# Altium integrated library Cypress Microcontroller 8-Bit.IntLib: 9 symbols
Pins are listed as number, name and electrical type; pins without a type are passive.

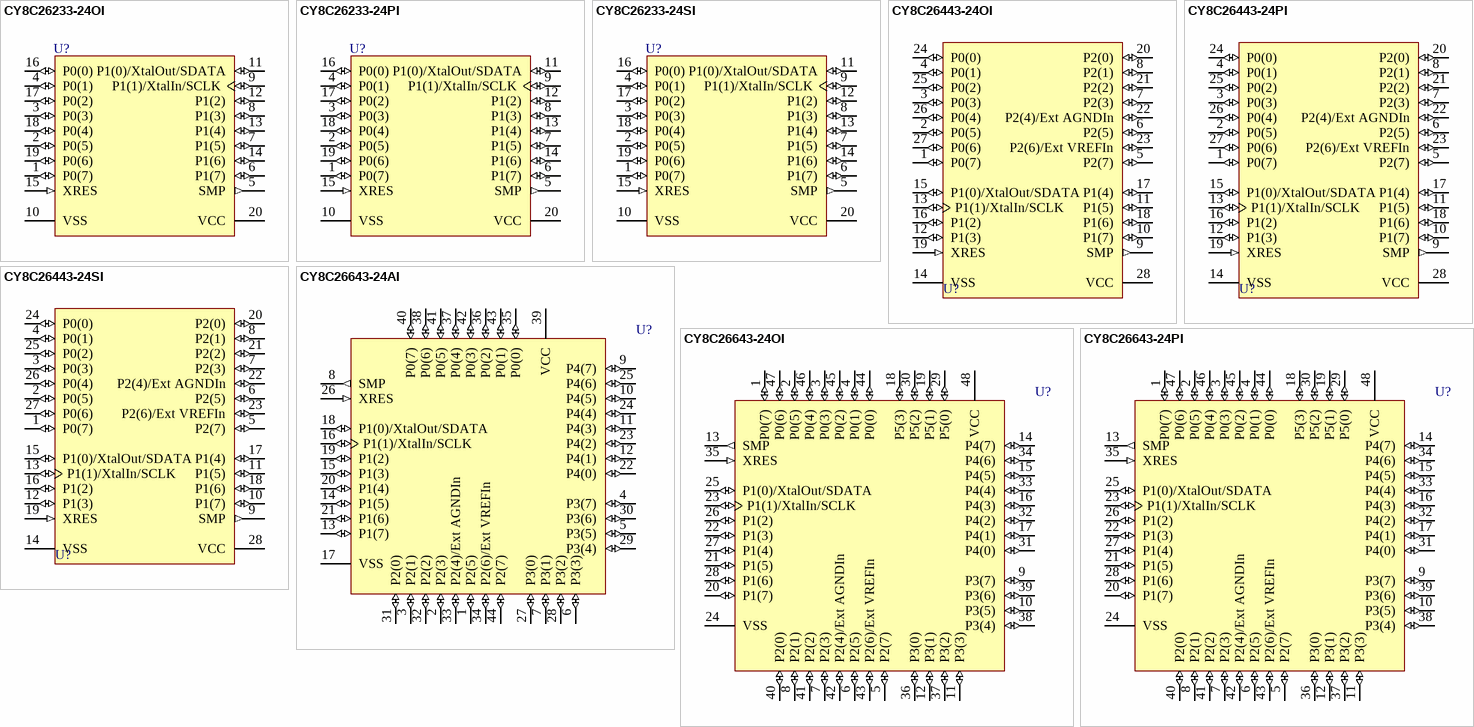
[diagram p0: symbols CY8C26233-24OI to CY8C26643-24PI]

## CY8C26233-24OI
designator U?
Programmable System-On-Chip; Published: 11-Dec-2002; LatestRevisionDate: 04-Mar-2005; LatestRevisionNote: Stylized 3D Model Added.; DatasheetVersion: 2000-2001; PackageVersion: Jun-1997; PackageReference: O20; Publisher: Altium Limited; PackageDescription: SSOP; 20 Leads; Body Width 5.3 mm; Pitch 0.65 mm; ComponentLink1Description: Manufacturer Link; ComponentLink1URL: http://www.cypressmicro.com
footprint O20 (SSOP; 20 Leads; Body Width 5.3 mm; Pitch 0.65 mm)
3D model O20 (SSOP; 20 Leads; Body Width 5.3 mm; Pitch 0.65 mm)
pins: 1 P0(7) (io), 2 P0(5) (io), 3 P0(3) (io), 4 P0(1) (io), 5 SMP (out), 6 P1(7) (io), 7 P1(5) (io), 8 P1(3) (io), 9 P1(1)/XtalIn/SCLK (io), 10 VSS (power), 11 P1(0)/XtalOut/SDATA (io), 12 P1(2) (io), 13 P1(4) (io), 14 P1(6) (io), 15 XRES (in), 16 P0(0) (io), 17 P0(2) (io), 18 P0(4) (io), 19 P0(6) (io), 20 VCC (power)

## CY8C26233-24PI
designator U?
Programmable System-On-Chip; Published: 11-Dec-2002; LatestRevisionDate: 04-Mar-2005; LatestRevisionNote: Stylized 3D Model Added.; DatasheetVersion: 2000-2001; PackageVersion: Jul-2001; PackageReference: P5; Publisher: Altium Limited; PackageDescription: DIP, Molded; 20 Leads; Row Spacing 7.62 mm; Pitch 2.54 mm; Code_JEDEC: MS-001-AD; ComponentLink1Description: Manufacturer Link; ComponentLink1URL: http://www.cypressmicro.com
footprint P5 (DIP, Molded; 20 Leads; Row Spacing 7.62 mm; Pitch 2.54 mm)
3D model P5 (DIP, Molded; 20 Leads; Row Spacing 7.62 mm; Pitch 2.54 mm)
pins: 1 P0(7) (io), 2 P0(5) (io), 3 P0(3) (io), 4 P0(1) (io), 5 SMP (out), 6 P1(7) (io), 7 P1(5) (io), 8 P1(3) (io), 9 P1(1)/XtalIn/SCLK (io), 10 VSS (power), 11 P1(0)/XtalOut/SDATA (io), 12 P1(2) (io), 13 P1(4) (io), 14 P1(6) (io), 15 XRES (in), 16 P0(0) (io), 17 P0(2) (io), 18 P0(4) (io), 19 P0(6) (io), 20 VCC (power)

## CY8C26233-24SI
designator U?
Programmable System-On-Chip; Published: 11-Dec-2002; LatestRevisionDate: 13-Apr-2006; LatestRevisionNote: IPC-7351 Footprint Added.; DatasheetVersion: 2000-2001; PackageVersion: Apr-2000; PackageReference: S5; Publisher: Altium Limited; PackageDescription: 20-Pin Molded Small Outline Integrated Circuit 1.27 mm Pitch; Code_JEDEC: MS-013-AC; Code_IPC: SOIC127P1030-20; ComponentLink1Description: Manufacturer Link; ComponentLink1URL: http://www.cypressmicro.com
footprint S5_N (SOIC, 20-Leads, Body 12.8x7.5mm, Pitch 1.27mm, IPC Medium Density)
footprint S5_L (SOIC, 20-Leads, Body 12.8x7.5mm, Pitch 1.27mm, IPC High Density)
footprint S5_M (SOIC, 20-Leads, Body 12.8x7.5mm, Pitch 1.27mm, IPC Low Density)
3D model S5 (20-Pin Molded Small Outline Integrated Circuit 1.27 mm Pitch)
pins: 1 P0(7) (io), 2 P0(5) (io), 3 P0(3) (io), 4 P0(1) (io), 5 SMP (out), 6 P1(7) (io), 7 P1(5) (io), 8 P1(3) (io), 9 P1(1)/XtalIn/SCLK (io), 10 VSS (power), 11 P1(0)/XtalOut/SDATA (io), 12 P1(2) (io), 13 P1(4) (io), 14 P1(6) (io), 15 XRES (in), 16 P0(0) (io), 17 P0(2) (io), 18 P0(4) (io), 19 P0(6) (io), 20 VCC (power)

## CY8C26443-24OI
designator U?
Programmable System-On-Chip; Published: 11-Dec-2002; LatestRevisionDate: 04-Mar-2005; LatestRevisionNote: Stylized 3D Model Added.; DatasheetVersion: 2000-2001; PackageVersion: Jun-1997; PackageReference: O28; Publisher: Altium Limited; PackageDescription: SSOP; 28 Leads; Body Width 5.3 mm; Pitch 0.65 mm; ComponentLink1Description: Manufacturer Link; ComponentLink1URL: http://www.cypressmicro.com
footprint O28 (SSOP; 28 Leads; Body Width 5.3 mm; Pitch 0.65 mm)
3D model O28 (SSOP; 28 Leads; Body Width 5.3 mm; Pitch 0.65 mm)
pins: 1 P0(7) (io), 2 P0(5) (io), 3 P0(3) (io), 4 P0(1) (io), 5 P2(7) (io), 6 P2(5) (io), 7 P2(3) (io), 8 P2(1) (io), 9 SMP (out), 10 P1(7) (io), 11 P1(5) (io), 12 P1(3) (io), 13 P1(1)/XtalIn/SCLK (io), 14 VSS (power), 15 P1(0)/XtalOut/SDATA (io), 16 P1(2) (io), 17 P1(4) (io), 18 P1(6) (io), 19 XRES (in), 20 P2(0) (io), 21 P2(2) (io), 22 P2(4)/Ext AGNDIn (io), 23 P2(6)/Ext VREFIn (io), 24 P0(0) (io), 25 P0(2) (io), 26 P0(4) (io), 27 P0(6) (io), 28 VCC (power)

## CY8C26443-24PI
designator U?
Programmable System-On-Chip; Published: 11-Dec-2002; LatestRevisionDate: 04-Mar-2005; LatestRevisionNote: Stylized 3D Model Added.; DatasheetVersion: 2000-2001; PackageVersion: Jul-2000; PackageReference: P21; Publisher: Altium Limited; PackageDescription: DIP, Molded; 28 Leads; Row Spacing 7.62 mm; Pitch 2.54 mm; ComponentLink1Description: Manufacturer Link; ComponentLink1URL: http://www.cypressmicro.com
footprint P21 (DIP, Molded; 28 Leads; Row Spacing 7.62 mm; Pitch 2.54 mm)
3D model P21 (DIP, Molded; 28 Leads; Row Spacing 7.62 mm; Pitch 2.54 mm)
pins: 1 P0(7) (io), 2 P0(5) (io), 3 P0(3) (io), 4 P0(1) (io), 5 P2(7) (io), 6 P2(5) (io), 7 P2(3) (io), 8 P2(1) (io), 9 SMP (out), 10 P1(7) (io), 11 P1(5) (io), 12 P1(3) (io), 13 P1(1)/XtalIn/SCLK (io), 14 VSS (power), 15 P1(0)/XtalOut/SDATA (io), 16 P1(2) (io), 17 P1(4) (io), 18 P1(6) (io), 19 XRES (in), 20 P2(0) (io), 21 P2(2) (io), 22 P2(4)/Ext AGNDIn (io), 23 P2(6)/Ext VREFIn (io), 24 P0(0) (io), 25 P0(2) (io), 26 P0(4) (io), 27 P0(6) (io), 28 VCC (power)

## CY8C26443-24SI
designator U?
Programmable System-On-Chip; Published: 11-Dec-2002; LatestRevisionDate: 13-Apr-2006; LatestRevisionNote: IPC-7351 Footprint Added.; DatasheetVersion: 2000-2001; PackageVersion: Apr-1999; PackageReference: S21; Publisher: Altium Limited; PackageDescription: 28-Pin Molded Small Outline Integrated Circuit 1.27 mm Pitch; ComponentLink1Description: Manufacturer Link; ComponentLink1URL: http://www.cypressmicro.com
footprint S21_N (SOIC, 28-Leads, Body 17.9x7.5mm, Pitch 1.27mm, IPC Medium Density)
footprint S21_L (SOIC, 28-Leads, Body 17.9x7.5mm, Pitch 1.27mm, IPC High Density)
footprint S21_M (SOIC, 28-Leads, Body 17.9x7.5mm, Pitch 1.27mm, IPC Low Density)
3D model S21 (28-Pin Molded Small Outline Integrated Circuit 1.27 mm Pitch)
pins: 1 P0(7) (io), 2 P0(5) (io), 3 P0(3) (io), 4 P0(1) (io), 5 P2(7) (io), 6 P2(5) (io), 7 P2(3) (io), 8 P2(1) (io), 9 SMP (out), 10 P1(7) (io), 11 P1(5) (io), 12 P1(3) (io), 13 P1(1)/XtalIn/SCLK (io), 14 VSS (power), 15 P1(0)/XtalOut/SDATA (io), 16 P1(2) (io), 17 P1(4) (io), 18 P1(6) (io), 19 XRES (in), 20 P2(0) (io), 21 P2(2) (io), 22 P2(4)/Ext AGNDIn (io), 23 P2(6)/Ext VREFIn (io), 24 P0(0) (io), 25 P0(2) (io), 26 P0(4) (io), 27 P0(6) (io), 28 VCC (power)

## CY8C26643-24AI
designator U?
Programmable System-On-Chip; Published: 11-Dec-2002; LatestRevisionDate: 13-Apr-2006; LatestRevisionNote: IPC-7351 Footprint Added.; DatasheetVersion: 2000-2001; PackageVersion: Mar-2002; PackageReference: A44; Publisher: Altium Limited; PackageDescription: 44-Pin Thin Plastic Quad Flat Pack 0.8 mm Pitch; ComponentLink1Description: Manufacturer Link; ComponentLink1URL: http://www.cypressmicro.com
footprint A44_N (Thin QFP, 44-Leads, Body 10x10mm, Pitch 0.8mm, IPC Medium Density)
footprint A44_L (Thin QFP, 44-Leads, Body 10x10mm, Pitch 0.8mm, IPC High Density)
footprint A44_M (Thin QFP, 44-Leads, Body 10x10mm, Pitch 0.8mm, IPC Low Density)
3D model CY8C26643-A44 (44-Pin Thin Plastic Quad Flat Pack 0.8 mm Pitch)
pins: 1 P2(5) (io), 2 P2(3) (io), 3 P2(1) (io), 4 P3(7) (io), 5 P3(5) (io), 6 P3(3) (io), 7 P3(1) (io), 8 SMP (out), 9 P4(7) (io), 10 P4(5) (io), 11 P4(3) (io), 12 P4(1) (io), 13 P1(7) (io), 14 P1(5) (io), 15 P1(3) (io), 16 P1(1)/XtalIn/SCLK (io), 17 VSS (power), 18 P1(0)/XtalOut/SDATA (io), 19 P1(2) (io), 20 P1(4) (io), 21 P1(6) (io), 22 P4(0) (io), 23 P4(2) (io), 24 P4(4) (io), 25 P4(6) (io), 26 XRES (in), 27 P3(0) (io), 28 P3(2) (io), 29 P3(4) (io), 30 P3(6) (io), 31 P2(0) (io), 32 P2(2) (io), 33 P2(4)/Ext AGNDIn (io), 34 P2(6)/Ext VREFIn (io), 35 P0(0) (io), 36 P0(2) (io), 37 P0(4) (io), 38 P0(6) (io), 39 VCC (power), 40 P0(7) (io), 41 P0(5) (io), 42 P0(3) (io), 43 P0(1) (io), 44 P2(7) (io)

## CY8C26643-24OI
designator U?
Programmable System-On-Chip; Published: 11-Dec-2002; LatestRevisionDate: 04-Mar-2005; LatestRevisionNote: Stylized 3D Model Added.; DatasheetVersion: 2000-2001; PackageVersion: Feb-2001; PackageReference: O48; Publisher: Altium Limited; PackageDescription: SSOP; 48 Leads; Body Width 7.5 mm; Pitch 0.635 mm; Code_JEDEC: MO-118-AA; Code_IPC: SSO48; ComponentLink1Description: Manufacturer Link; ComponentLink1URL: http://www.cypressmicro.com
footprint O48 (SSOP; 48 Leads; Body Width 7.5 mm; Pitch 0.635 mm)
3D model O48 (SSOP; 48 Leads; Body Width 7.5 mm; Pitch 0.635 mm)
pins: 1 P0(7) (io), 2 P0(5) (io), 3 P0(3) (io), 4 P0(1) (io), 5 P2(7) (io), 6 P2(5) (io), 7 P2(3) (io), 8 P2(1) (io), 9 P3(7) (io), 10 P3(5) (io), 11 P3(3) (io), 12 P3(1) (io), 13 SMP (out), 14 P4(7) (io), 15 P4(5) (io), 16 P4(3) (io), 17 P4(1) (io), 18 P5(3) (io), 19 P5(1) (io), 20 P1(7) (io), 21 P1(5) (io), 22 P1(3) (io), 23 P1(1)/XtalIn/SCLK (io), 24 VSS (power), 25 P1(0)/XtalOut/SDATA (io), 26 P1(2) (io), 27 P1(4) (io), 28 P1(6) (io), 29 P5(0) (io), 30 P5(2) (io), 31 P4(0) (io), 32 P4(2) (io), 33 P4(4) (io), 34 P4(6) (io), 35 XRES (in), 36 P3(0) (io), 37 P3(2) (io), 38 P3(4) (io), 39 P3(6) (io), 40 P2(0) (io), 41 P2(2) (io), 42 P2(4)/Ext AGNDIn (io), 43 P2(6)/Ext VREFIn (io), 44 P0(0) (io), 45 P0(2) (io), 46 P0(4) (io), 47 P0(6) (io), 48 VCC (power)

## CY8C26643-24PI
designator U?
Programmable System-On-Chip; Published: 11-Dec-2002; LatestRevisionDate: 04-Mar-2005; LatestRevisionNote: Stylized 3D Model Added.; DatasheetVersion: 2000-2001; PackageVersion: Mar-1997; PackageReference: P25; Publisher: Altium Limited; PackageDescription: DIP, Molded; 48 Leads; Row Spacing 15.24 mm; Pitch 2.54 mm; ComponentLink1Description: Manufacturer Link; ComponentLink1URL: http://www.cypressmicro.com
footprint P25 (DIP, Molded; 48 Leads; Row Spacing 15.24 mm; Pitch 2.54 mm)
3D model P25 (DIP, Molded; 48 Leads; Row Spacing 15.24 mm; Pitch 2.54 mm)
pins: 1 P0(7) (io), 2 P0(5) (io), 3 P0(3) (io), 4 P0(1) (io), 5 P2(7) (io), 6 P2(5) (io), 7 P2(3) (io), 8 P2(1) (io), 9 P3(7) (io), 10 P3(5) (io), 11 P3(3) (io), 12 P3(1) (io), 13 SMP (out), 14 P4(7) (io), 15 P4(5) (io), 16 P4(3) (io), 17 P4(1) (io), 18 P5(3) (io), 19 P5(1) (io), 20 P1(7) (io), 21 P1(5) (io), 22 P1(3) (io), 23 P1(1)/XtalIn/SCLK (io), 24 VSS (power), 25 P1(0)/XtalOut/SDATA (io), 26 P1(2) (io), 27 P1(4) (io), 28 P1(6) (io), 29 P5(0) (io), 30 P5(2) (io), 31 P4(0) (io), 32 P4(2) (io), 33 P4(4) (io), 34 P4(6) (io), 35 XRES (in), 36 P3(0) (io), 37 P3(2) (io), 38 P3(4) (io), 39 P3(6) (io), 40 P2(0) (io), 41 P2(2) (io), 42 P2(4)/Ext AGNDIn (io), 43 P2(6)/Ext VREFIn (io), 44 P0(0) (io), 45 P0(2) (io), 46 P0(4) (io), 47 P0(6) (io), 48 VCC (power)